# Altium integrated library Micron Memory Parallel NOR Flash.IntLib: 720 symbols (part 170 of 216)
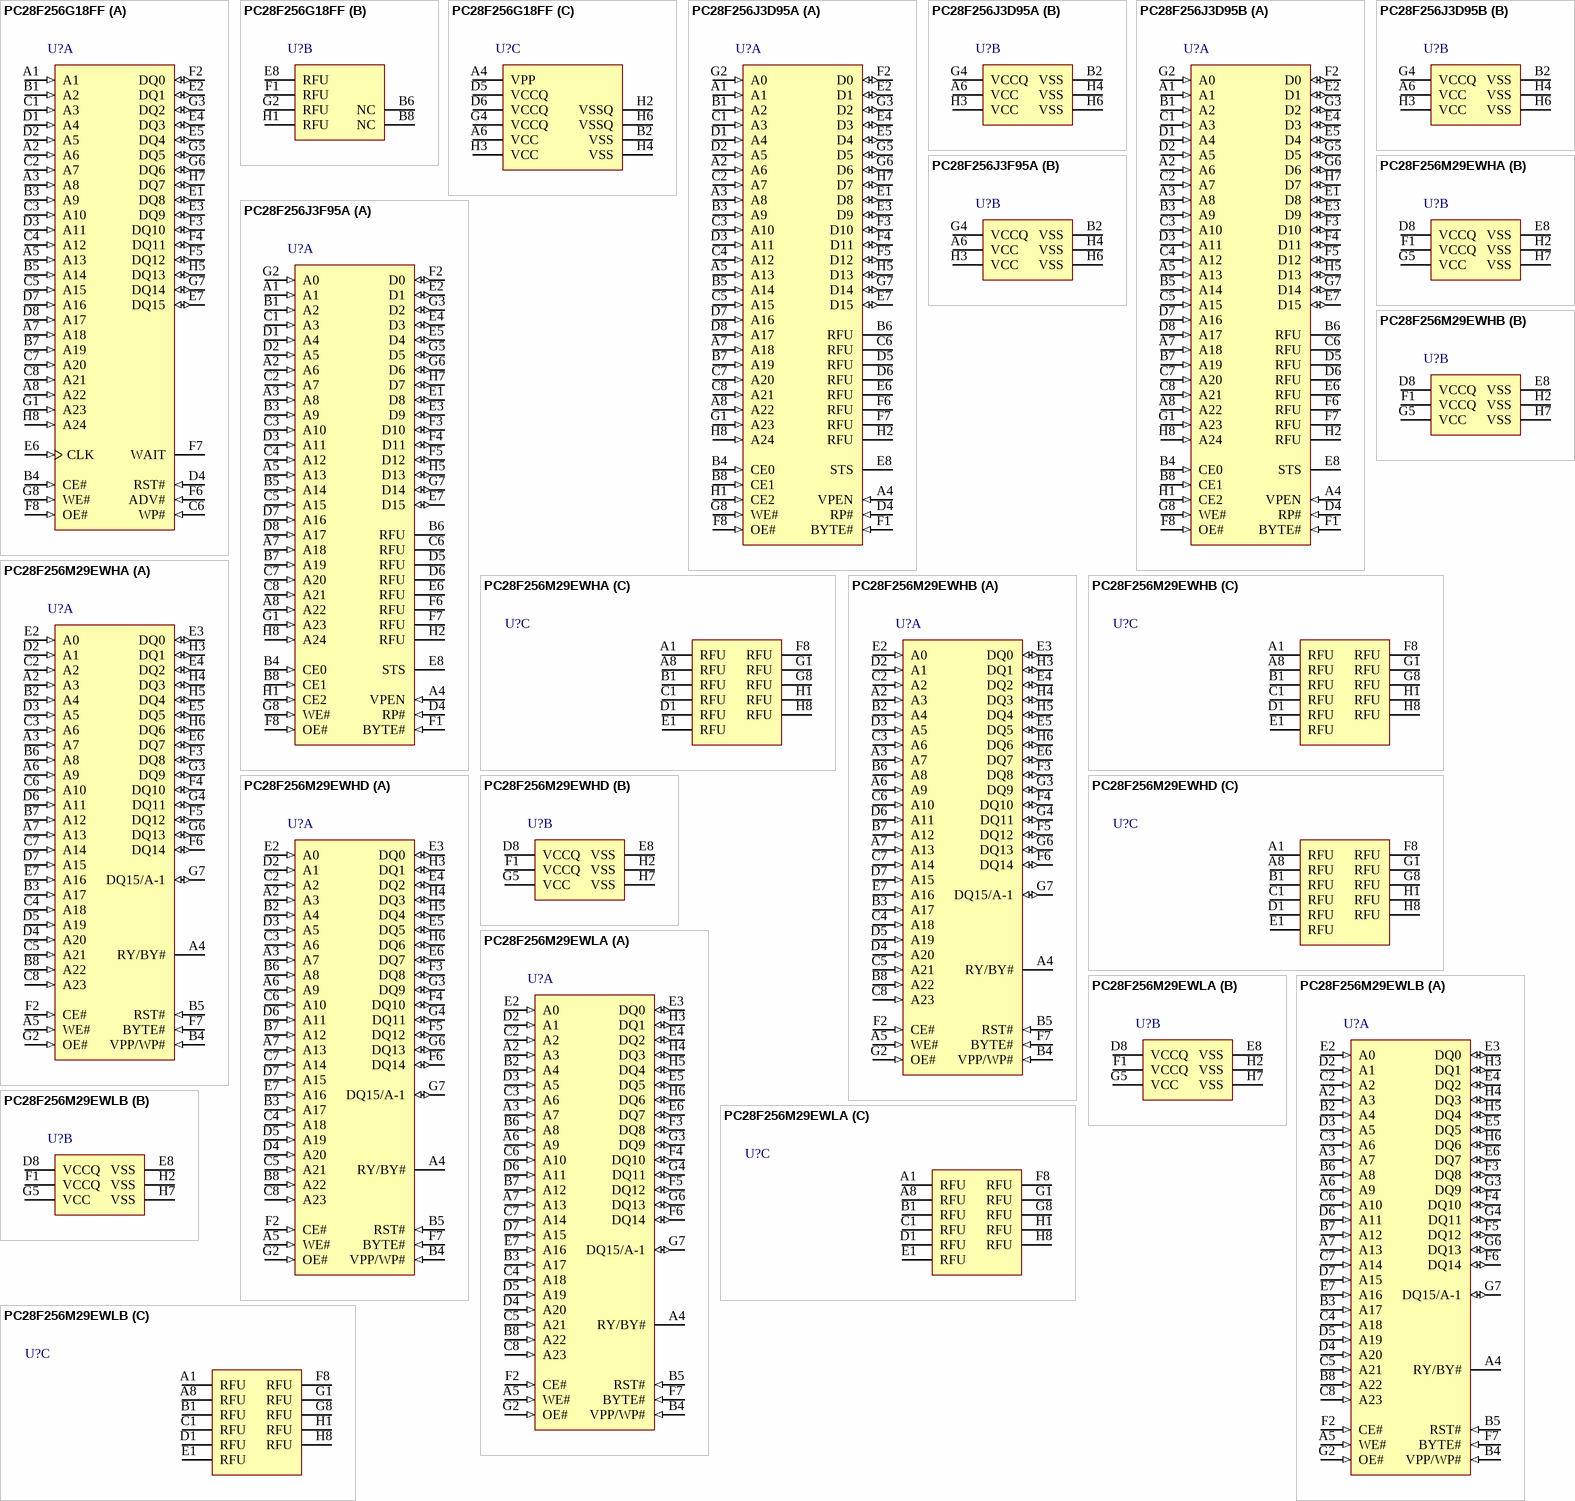
[diagram p203: symbols PC28F256G18FF to PC28F256M29EWLB]

## PC28F256J3F95A
designator U?
256 Mb (x8/x16) Parallel NOR Flash Memory, 95 ns, 2.7 to 3.6 V, 64-ball Easy BGA (PC), Tray; Part Family: J3; Manufacturer: Micron; PartNumber: PC28F256J3F95A; Density: 256Mb; Op Temp: -40C to +85C; Speed: 95ns; Voltage: 2.7V-3.6V; DatasheetVersion: Rev.02; PackageVersion: Rev. 10; PackageReference: MICT-PC-64-13000X10000X1200DEA; PackageDescription: 64-Ball BGA, 13 x 10 mm, Pitch 1 mm; RoHS: Yes; Width: x8/x16; Mounting Technology: Surface Mount; ComponentLink1Description: Manufacturer URL; ComponentLink1URL: http://www.micron.com/; ComponentLink2Description: Datasheet; ComponentLink2URL: http://www.micron.com/~/media/Documents/Products/Data%20Sheet/NOR%20Flash/Parallel/J3/319942_J3_65_256M_MLC_DS.pdf; ComponentLink3Description: Package Specification; ComponentLink3URL: http://www.micron.com/~/media/Documents/Products/Data%20Sheet/NOR%20Flash/Parallel/J3/316577_J3D_Monolithic_DS.pdf
footprint MICT-PC-64-13000X10000X1200DEA (BGA, 64-Balls, Body 13x10mm, Pitch 1mm)
part A pins: A1 (in) "Address Input: Input for addresses during read and program operations.", A2 A6 (in) "ADDRESS INPUT: Inputs for addresses during read and program operations.", A3 A8 (in) "ADDRESS INPUT: Inputs for addresses during read and program operations.", A4 VPEN (in) "ERASE / PROGRAM / BLOCK LOCK ENABLE: For erasing array blocks, programming data, or configuring lock-bits. With VPEN =< VPENLK, memory contents cannot be altered.", A5 A13 (in) "ADDRESS INPUT: Inputs for addresses during read and program operations.", A7 A18 (in) "ADDRESS INPUT: Inputs for addresses during read and program operations.", A8 A22 (in) "ADDRESS INPUT: Inputs for addresses during read and program operations.", B1 A2 (in) "ADDRESS INPUT: Inputs for addresses during read and program operations.", B3 A9 (in) "ADDRESS INPUT: Inputs for addresses during read and program operations.", B4 CE0 (in) "CHIP ENABLE: Activate the 32-, 64-, 128-, and 256-Mbit devices?control logic, input buffers, decoders, and sense amplifiers. When the device is de-selected (see Table 16, "Chip Enable Truth Table for 32-, 64-, 128- and (See Datasheet)", B5 A14 (in) "ADDRESS INPUT: Inputs for addresses during read and program operations.", B6 RFU "Reserved for Future Use: Balls designated as RFU are reserved by Numonyx for future device functionality and enhancement.", B7 A19 (in) "ADDRESS INPUT: Inputs for addresses during read and program operations.", B8 CE1 (in) "CHIP ENABLE: Activate the 32-, 64-, 128-, and 256-Mbit devices?control logic, input buffers, decoders, and sense amplifiers. When the device is de-selected (see Table 16, "Chip Enable Truth Table for 32-, 64-, 128- and (See Datasheet)", C1 A3 (in) "ADDRESS INPUT: Inputs for addresses during read and program operations.", C2 A7 (in) "ADDRESS INPUT: Inputs for addresses during read and program operations.", C3 A10 (in) "ADDRESS INPUT: Inputs for addresses during read and program operations.", C4 A12 (in) "ADDRESS INPUT: Inputs for addresses during read and program operations.", C5 A15 (in) "ADDRESS INPUT: Inputs for addresses during read and program operations.", C6 RFU "Reserved for Future Use: Balls designated as RFU are reserved by Numonyx for future device functionality and enhancement.", C7 A20 (in) "ADDRESS INPUT: Inputs for addresses during read and program operations.", C8 A21 (in) "ADDRESS INPUT: Inputs for addresses during read and program operations.", D1 A4 (in) "ADDRESS INPUT: Inputs for addresses during read and program operations.", D2 A5 (in) "ADDRESS INPUT: Inputs for addresses during read and program operations.", D3 A11 (in) "ADDRESS INPUT: Inputs for addresses during read and program operations.", D4 RP# (in) "RESET: RP#-low resets internal automation and puts the device in power-down mode. RP#-high enables normal operation. Exit from reset sets the device to read array mode. When driven low, RP# inhibits write operations which (See Datasheet)", D5 RFU "Reserved for Future Use: Balls designated as RFU are reserved by Numonyx for future device functionality and enhancement.", D6 RFU "Reserved for Future Use: Balls designated as RFU are reserved by Numonyx for future device functionality and enhancement.", D7 A16 (in) "ADDRESS INPUT: Inputs for addresses during read and program operations.", D8 A17 (in) "ADDRESS INPUT: Inputs for addresses during read and program operations.", E1 D8 (io) "HIGH-BYTE DATA BUS: Inputs data during x16 buffer writes and programming operations. Outputs array, CFI, or identifier data in the appropriate read mode; not used for Status Register reads. Data is internally latched during (See Datasheet)", E2 D1 (io) "LOW-BYTE DATA BUS: Inputs data during buffer writes and programming, and inputs commands during CUI writes. Outputs array, CFI, identifier, or status data in the appropriate read mode. Data is internally latched during write (See Datasheet)", E3 D9 (io) "HIGH-BYTE DATA BUS: Inputs data during x16 buffer writes and programming operations. Outputs array, CFI, or identifier data in the appropriate read mode; not used for Status Register reads. Data is internally latched during (See Datasheet)", E4 D3 (io) "LOW-BYTE DATA BUS: Inputs data during buffer writes and programming, and inputs commands during CUI writes. Outputs array, CFI, identifier, or status data in the appropriate read mode. Data is internally latched during write (See Datasheet)", E5 D4 (io) "LOW-BYTE DATA BUS: Inputs data during buffer writes and programming, and inputs commands during CUI writes. Outputs array, CFI, identifier, or status data in the appropriate read mode. Data is internally latched during write (See Datasheet)", E6 RFU "Reserved for Future Use: Balls designated as RFU are reserved by Numonyx for future device functionality and enhancement.", E7 D15 (io) "HIGH-BYTE DATA BUS: Inputs data during x16 buffer writes and programming operations. Outputs array, CFI, or identifier data in the appropriate read mode; not used for Status Register reads. Data is internally latched during (See Datasheet)", E8 STS (hiz) "STATUS: Indicates the status of the internal state machine. When configured in level mode (default), it acts as a RY/BY# signal. When configured in one of its pulse modes, it can pulse to indicate program and/or erase (See Datasheet)", F1 BYTE# (in) "BYTE ENABLE: BYTE#-low places the device in x8 mode; data is input or output on D[7:0], while D[15:8] is placed in High-Z. Address A0 selects between the high and low byte. BYTE#-high places the device in x16 mode, and turns (See Datasheet)", F2 D0 (io) "LOW-BYTE DATA BUS: Inputs data during buffer writes and programming, and Inputs commands during CUI writes. Outputs array, CFI, identifier, or status data in the appropriate read mode. Data is internally latched during write (See Datasheet)", F3 D10 (io) "HIGH-BYTE DATA BUS: Inputs data during x16 buffer writes and programming operations. Outputs array, CFI, or identifier data in the appropriate read mode; not used for Status Register reads. Data is internally latched during (See Datasheet)", F4 D11 (io) "HIGH-BYTE DATA BUS: Inputs data during x16 buffer writes and programming operations. Outputs array, CFI, or identifier data in the appropriate read mode; not used for Status Register reads. Data is internally latched during (See Datasheet)", F5 D12 (io) "HIGH-BYTE DATA BUS: Inputs data during x16 buffer writes and programming operations. Outputs array, CFI, or identifier data in the appropriate read mode; not used for Status Register reads. Data is internally latched during (See Datasheet)", F6 RFU "Reserved for Future Use: Balls designated as RFU are reserved by Numonyx for future device functionality and enhancement.", F7 RFU "Reserved for Future Use: Balls designated as RFU are reserved by Numonyx for future device functionality and enhancement.", F8 OE# (in) "OUTPUT ENABLE: Activates the device's outputs through the data buffers during a read cycle. OE# is active low.", G1 A23 (in) "ADDRESS INPUT: Inputs for addresses during read and program operations.", G2 A0 (in) "BYTE-SELECT ADDRESS: Selects between high and low byte when the device is in x8 mode. This address is latched during a x8 program cycle. Not used in x16 mode (i.e., the A0 input buffer is turned off when BYTE# is high).", G3 D2 (io) "LOW-BYTE DATA BUS: Inputs data during buffer writes and programming, and inputs commands during CUI writes. Outputs array, CFI, identifier, or status data in the appropriate read mode. Data is internally latched during write (See Datasheet)", G5 D5 (io) "LOW-BYTE DATA BUS: Inputs data during buffer writes and programming, and inputs commands during CUI writes. Outputs array, CFI, identifier, or status data in the appropriate read mode. Data is internally latched during write (See Datasheet)", G6 D6 (io) "LOW-BYTE DATA BUS: Inputs data during buffer writes and programming, and inputs commands during CUI writes. Outputs array, CFI, identifier, or status data in the appropriate read mode. Data is internally latched during write (See Datasheet)", G7 D14 (io) "HIGH-BYTE DATA BUS: Inputs data during x16 buffer writes and programming operations. Outputs array, CFI, or identifier data in the appropriate read mode; not used for Status Register reads. Data is internally latched during (See Datasheet)", G8 WE# (in) "WRITE ENABLE: Controls writes to the CUI, the Write Buffer, and array blocks. WE# is active low. Addresses and data are latched on the rising edge of WE#.", H1 CE2 (in) "CHIP ENABLE: Activate the 32-, 64-, 128-, and 256-Mbit devices?control logic, input buffers, decoders, and sense amplifiers. When the device is de-selected (see Table 16, "Chip Enable Truth Table for 32-, 64-, 128- and (See Datasheet)", H2 RFU "Reserved for Future Use: Balls designated as RFU are reserved by Numonyx for future device functionality and enhancement.", H5 D13 (io) "HIGH-BYTE DATA BUS: Inputs data during x16 buffer writes and programming operations. Outputs array, CFI, or identifier data in the appropriate read mode; not used for Status Register reads. Data is internally latched during (See Datasheet)", H7 D7 (io) "LOW-BYTE DATA BUS: Inputs data during buffer writes and programming, and inputs commands during CUI writes. Outputs array, CFI, identifier, or status data in the appropriate read mode. Data is internally latched during write (See Datasheet)", H8 A24 (in) "ADDRESS INPUT: Inputs for addresses during read and program operations."
part B pins: A6 VCC (power) "CORE Power Supply: Core (logic) source voltage. Writes to the flash array are inhibited when VCC =< Vlko. Caution: Device operation at invalid Vcc voltages should not be attempted.", B2 VSS (power) "GROUND: Ground reference for device logic voltages. Connect to system ground.", G4 VCCQ (power) "I/O Power Supply: Power supply for Input/Output buffers.This ball can be tied directly to VCC.", H3 VCC (power) "CORE Power Supply: Core (logic) source voltage. Writes to the flash array are inhibited when VCC =< Vlko. Caution: Device operation at invalid Vcc voltages should not be attempted.", H4 VSS (power) "GROUND: Ground reference for device logic voltages. Connect to system ground.", H6 VSS (power) "GROUND: Ground reference for device logic voltages. Connect to system ground."

## PC28F256M29EWHA
designator U?
256 Mb (x8/x16) Parallel NOR Flash Memory, 100 ns, 2.7 to 3.6 V, 64-ball FBGA (PC), Tray; Part Family: M29EW; Manufacturer: Micron; PartNumber: PC28F256M29EWHA; Density: 256Mb; Op Temp: -40C to +85C; Speed: 100ns; Voltage: 2.7V-3.6V; DatasheetVersion: Rev. B; PackageVersion: Rev. B; PackageReference: MICT-PC-64-13000X11000X1400DEA; PackageDescription: 64-Ball BGA, 13 x 11 mm, Pitch 1 mm; RoHS: Yes; Width: x8/x16; Mounting Technology: Surface Mount; ComponentLink1Description: Manufacturer URL; ComponentLink1URL: http://www.micron.com/; ComponentLink2Description: Datasheet; ComponentLink2URL: http://www.micron.com/~/media/Documents/Products/Data%20Sheet/NOR%20Flash/Parallel/M29EW/m29ew_256mb_2gb.pdf; ComponentLink3Description: Package Specification; ComponentLink3URL: http://www.micron.com/~/media/Documents/Products/Data%20Sheet/NOR%20Flash/Parallel/M29EW/m29ew_256mb_2gb.pdf
footprint MICT-PC-64-13000X11000X1400DEA (BGA, 64-Balls, Body 13x11mm, Pitch 1mm)
part A pins: A2 A3 (in) "Address: Selects the cells in the array to access during READ operations. During WRITE operations, they control the commands sent to the command interface of the program/erase controller.", A3 A7 (in) "Address: Selects the cells in the array to access during READ operations. During WRITE operations, they control the commands sent to the command interface of the program/erase controller.", A4 RY/BY# (hiz) "Ready busy: Open-drain output that can be used to identify when the device is performing a PROGRAM or ERASE operation. During PROGRAM or ERASE operations, RY/BY# is LOW, and is High-Z during read mode, auto select mode, and (See Datasheet)", A5 WE# (in) "Write enable: Controls the bus WRITE operation of the command interface.", A6 A9 (in) "Address: Selects the cells in the array to access during READ operations. During WRITE operations, they control the commands sent to the command interface of the program/erase controller.", A7 A13 (in) "Address: Selects the cells in the array to access during READ operations. During WRITE operations, they control the commands sent to the command interface of the program/erase controller.", B2 A4 (in) "Address: Selects the cells in the array to access during READ operations. During WRITE operations, they control the commands sent to the command interface of the program/erase controller.", B3 A17 (in) "Address: Selects the cells in the array to access during READ operations. During WRITE operations, they control the commands sent to the command interface of the program/erase controller.", B4 VPP/WP# (in) "VPP/Write Protect: Provides WRITE PROTECT function and VPPH function. These functions protect the lowest or highest block and enable the device to enter unlock bypass mode, respectively. (Refer to Hardware Protection and (See Datasheet)", B5 RST# (in) "Reset: Applies a hardware reset to the device, which is achieved by holding RST# LOW for at least tPLPX. After RST# goes HIGH, the device is ready for READ and WRITE operations (after tPHEL or tRHEL, whichever occurs last). (See Datasheet)", B6 A8 (in) "Address: Selects the cells in the array to access during READ operations. During WRITE operations, they control the commands sent to the command interface of the program/erase controller.", B7 A12 (in) "Address: Selects the cells in the array to access during READ operations. During WRITE operations, they control the commands sent to the command interface of the program/erase controller.", B8 A22 (in) "Address: Selects the cells in the array to access during READ operations. During WRITE operations, they control the commands sent to the command interface of the program/erase controller.", C2 A2 (in) "Address: Selects the cells in the array to access during READ operations. During WRITE operations, they control the commands sent to the command interface of the program/erase controller.", C3 A6 (in) "Address: Selects the cells in the array to access during READ operations. During WRITE operations, they control the commands sent to the command interface of the program/erase controller.", C4 A18 (in) "Address: Selects the cells in the array to access during READ operations. During WRITE operations, they control the commands sent to the command interface of the program/erase controller.", C5 A21 (in) "Address: Selects the cells in the array to access during READ operations. During WRITE operations, they control the commands sent to the command interface of the program/erase controller.", C6 A10 (in) "Address: Selects the cells in the array to access during READ operations. During WRITE operations, they control the commands sent to the command interface of the program/erase controller.", C7 A14 (in) "Address: Selects the cells in the array to access during READ operations. During WRITE operations, they control the commands sent to the command interface of the program/erase controller.", C8 A23 (in) "Address: Selects the cells in the array to access during READ operations. During WRITE operations, they control the commands sent to the command interface of the program/erase controller.", D2 A1 (in) "Address: Selects the cells in the array to access during READ operations. During WRITE operations, they control the commands sent to the command interface of the program/erase controller.", D3 A5 (in) "Address: Selects the cells in the array to access during READ operations. During WRITE operations, they control the commands sent to the command interface of the program/erase controller.", D4 A20 (in) "Address: Selects the cells in the array to access during READ operations. During WRITE operations, they control the commands sent to the command interface of the program/erase controller.", D5 A19 (in) "Address: Selects the cells in the array to access during READ operations. During WRITE operations, they control the commands sent to the command interface of the program/erase controller.", D6 A11 (in) "Address: Selects the cells in the array to access during READ operations. During WRITE operations, they control the commands sent to the command interface of the program/erase controller.", D7 A15 (in) "Address: Selects the cells in the array to access during READ operations. During WRITE operations, they control the commands sent to the command interface of the program/erase controller.", E2 A0 (in) "Address: Selects the cells in the array to access during READ operations. During WRITE operations, they control the commands sent to the command interface of the program/erase controller.", E3 DQ0 (io) "Data I/O: Output the data stored at the selected address during a READ operation. During WRITE operations, they represent the commands sent to the command interface of the internal state machine.", E4 DQ2 (io) "Data I/O: Output the data stored at the selected address during a READ operation. During WRITE operations, they represent the commands sent to the command interface of the internal state machine.", E5 DQ5 (io) "Data I/O: Output the data stored at the selected address during a READ operation. During WRITE operations, they represent the commands sent to the command interface of the internal state machine.", E6 DQ7 (io) "Data I/O: Output the data stored at the selected address during a READ operation. During WRITE operations, they represent the commands sent to the command interface of the internal state machine.", E7 A16 (in) "Address: Selects the cells in the array to access during READ operations. During WRITE operations, they control the commands sent to the command interface of the program/erase controller.", F2 CE# (in) "Chip enable: Activates the device, enabling READ and WRITE operations to be performed. When CE# is HIGH, the device goes to standby and data outputs are at HIGH-Z.", F3 DQ8 (io) "Data I/O: Output the data stored at the selected address during a READ operation when BYTE# is HIGH. When BYTE# is LOW, these pins are not used and are High-Z. During WRITE operations, these bits are not used. When reading (See Datasheet)", F4 DQ10 (io) "Data I/O: Output the data stored at the selected address during a READ operation when BYTE# is HIGH. When BYTE# is LOW, these pins are not used and are High-Z. During WRITE operations, these bits are not used. When reading (See Datasheet)", F5 DQ12 (io) "Data I/O: Output the data stored at the selected address during a READ operation when BYTE# is HIGH. When BYTE# is LOW, these pins are not used and are High-Z. During WRITE operations, these bits are not used. When reading (See Datasheet)", F6 DQ14 (io) "Data I/O: Output the data stored at the selected address during a READ operation when BYTE# is HIGH. When BYTE# is LOW, these pins are not used and are High-Z. During WRITE operations, these bits are not used. When reading (See Datasheet)", F7 BYTE# (in) "Byte/word organization select: Switches between x8 and x16 bus modes. When BYTE# is LOW, the device is in x8 mode; when HIGH, the device is in x16 mode.", G2 OE# (in) "Output enable: Controls the bus READ operation.", G3 DQ9 (io) "Data I/O: Output the data stored at the selected address during a READ operation when BYTE# is HIGH. When BYTE# is LOW, these pins are not used and are High-Z. During WRITE operations, these bits are not used. When reading (See Datasheet)", G4 DQ11 (io) "Data I/O: Output the data stored at the selected address during a READ operation when BYTE# is HIGH. When BYTE# is LOW, these pins are not used and are High-Z. During WRITE operations, these bits are not used. When reading (See Datasheet)", G6 DQ13 (io) "Data I/O: Output the data stored at the selected address during a READ operation when BYTE# is HIGH. When BYTE# is LOW, these pins are not used and are High-Z. During WRITE operations, these bits are not used. When reading (See Datasheet)", G7 DQ15/A-1 (io) "Data I/O or address input: When the device operates in x16 bus mode, this pin behaves as data I/O, together with DQ[14:8]. When the device operates in x8 bus mode, this pin behaves as the least significant bit of the address.(See Datasheet)", H3 DQ1 (io) "Data I/O: Output the data stored at the selected address during a READ operation. During WRITE operations, they represent the commands sent to the command interface of the internal state machine.", H4 DQ3 (io) "Data I/O: Output the data stored at the selected address during a READ operation. During WRITE operations, they represent the commands sent to the command interface of the internal state machine.", H5 DQ4 (io) "Data I/O: Output the data stored at the selected address during a READ operation. During WRITE operations, they represent the commands sent to the command interface of the internal state machine.", H6 DQ6 (io) "Data I/O: Output the data stored at the selected address during a READ operation. During WRITE operations, they represent the commands sent to the command interface of the internal state machine."
part B pins: D8 VCCQ (power) "I/O supply voltage: Provides the power supply to the I/O pins and enables all outputs to be powered independently from VCC.", E8 VSS (power) "Ground: All VSS pins must be connected to the system ground.", F1 VCCQ (power) "I/O supply voltage: Provides the power supply to the I/O pins and enables all outputs to be powered independently from VCC.", G5 VCC (power) "Supply voltage: Provides the power supply for READ, PROGRAM, and ERASE operations. The command interface is disabled when VCC <= VLKO. This prevents WRITE operations from accidentally damaging the data during power-up, (See Datasheet)", H2 VSS (power) "Ground: All VSS pins must be connected to the system ground.", H7 VSS (power) "Ground: All VSS pins must be connected to the system ground."
part C pins: A1 RFU "Reserved for future use: RFUs should be not connected.", A8 RFU "Reserved for future use: RFUs should be not connected.", B1 RFU "Reserved for future use: RFUs should be not connected.", C1 RFU "Reserved for future use: RFUs should be not connected.", D1 RFU "Reserved for future use: RFUs should be not connected.", E1 RFU "Reserved for future use: RFUs should be not connected.", F8 RFU "Reserved for future use: RFUs should be not connected.", G1 RFU "Reserved for future use: RFUs should be not connected.", G8 RFU "Reserved for future use: RFUs should be not connected.", H1 RFU "Reserved for future use: RFUs should be not connected.", H8 RFU "Reserved for future use: RFUs should be not connected."

## PC28F256M29EWHB
designator U?
256 Mb (x8/x16) Parallel NOR Flash Memory, 100 ns, 2.7 to 3.6 V, 64-ball FBGA (PC), Tape & Reel; Part Family: M29EW; Manufacturer: Micron; PartNumber: PC28F256M29EWHB; Density: 256MB; Op Temp: -40C to +85C; Speed: 100ns; Voltage: 2.7V-3.6V; DatasheetVersion: Rev. B; PackageVersion: Rev. B; PackageReference: MICT-PC-64-13000X11000X1400DEA; PackageDescription: 64-Ball BGA, 13 x 11 mm, Pitch 1 mm; RoHS: Yes; Width: x8/x16; Mounting Technology: Surface Mount; ComponentLink1Description: Manufacturer URL; ComponentLink1URL: http://www.micron.com/; ComponentLink2Description: Datasheet; ComponentLink2URL: http://www.micron.com/~/media/Documents/Products/Data%20Sheet/NOR%20Flash/Parallel/M29EW/m29ew_256mb_2gb.pdf; ComponentLink3Description: Package Specification; ComponentLink3URL: http://www.micron.com/~/media/Documents/Products/Data%20Sheet/NOR%20Flash/Parallel/M29EW/m29ew_256mb_2gb.pdf
footprint MICT-PC-64-13000X11000X1400DEA (BGA, 64-Balls, Body 13x11mm, Pitch 1mm)
part A pins: A2 A3 (in) "Address: Selects the cells in the array to access during READ operations. During WRITE operations, they control the commands sent to the command interface of the program/erase controller.", A3 A7 (in) "Address: Selects the cells in the array to access during READ operations. During WRITE operations, they control the commands sent to the command interface of the program/erase controller.", A4 RY/BY# (hiz) "Ready busy: Open-drain output that can be used to identify when the device is performing a PROGRAM or ERASE operation. During PROGRAM or ERASE operations, RY/BY# is LOW, and is High-Z during read mode, auto select mode, and (See Datasheet)", A5 WE# (in) "Write enable: Controls the bus WRITE operation of the command interface.", A6 A9 (in) "Address: Selects the cells in the array to access during READ operations. During WRITE operations, they control the commands sent to the command interface of the program/erase controller.", A7 A13 (in) "Address: Selects the cells in the array to access during READ operations. During WRITE operations, they control the commands sent to the command interface of the program/erase controller.", B2 A4 (in) "Address: Selects the cells in the array to access during READ operations. During WRITE operations, they control the commands sent to the command interface of the program/erase controller.", B3 A17 (in) "Address: Selects the cells in the array to access during READ operations. During WRITE operations, they control the commands sent to the command interface of the program/erase controller.", B4 VPP/WP# (in) "VPP/Write Protect: Provides WRITE PROTECT function and VPPH function. These functions protect the lowest or highest block and enable the device to enter unlock bypass mode, respectively. (Refer to Hardware Protection and (See Datasheet)", B5 RST# (in) "Reset: Applies a hardware reset to the device, which is achieved by holding RST# LOW for at least tPLPX. After RST# goes HIGH, the device is ready for READ and WRITE operations (after tPHEL or tRHEL, whichever occurs last). (See Datasheet)", B6 A8 (in) "Address: Selects the cells in the array to access during READ operations. During WRITE operations, they control the commands sent to the command interface of the program/erase controller.", B7 A12 (in) "Address: Selects the cells in the array to access during READ operations. During WRITE operations, they control the commands sent to the command interface of the program/erase controller.", B8 A22 (in) "Address: Selects the cells in the array to access during READ operations. During WRITE operations, they control the commands sent to the command interface of the program/erase controller.", C2 A2 (in) "Address: Selects the cells in the array to access during READ operations. During WRITE operations, they control the commands sent to the command interface of the program/erase controller.", C3 A6 (in) "Address: Selects the cells in the array to access during READ operations. During WRITE operations, they control the commands sent to the command interface of the program/erase controller.", C4 A18 (in) "Address: Selects the cells in the array to access during READ operations. During WRITE operations, they control the commands sent to the command interface of the program/erase controller.", C5 A21 (in) "Address: Selects the cells in the array to access during READ operations. During WRITE operations, they control the commands sent to the command interface of the program/erase controller.", C6 A10 (in) "Address: Selects the cells in the array to access during READ operations. During WRITE operations, they control the commands sent to the command interface of the program/erase controller.", C7 A14 (in) "Address: Selects the cells in the array to access during READ operations. During WRITE operations, they control the commands sent to the command interface of the program/erase controller.", C8 A23 (in) "Address: Selects the cells in the array to access during READ operations. During WRITE operations, they control the commands sent to the command interface of the program/erase controller.", D2 A1 (in) "Address: Selects the cells in the array to access during READ operations. During WRITE operations, they control the commands sent to the command interface of the program/erase controller.", D3 A5 (in) "Address: Selects the cells in the array to access during READ operations. During WRITE operations, they control the commands sent to the command interface of the program/erase controller.", D4 A20 (in) "Address: Selects the cells in the array to access during READ operations. During WRITE operations, they control the commands sent to the command interface of the program/erase controller.", D5 A19 (in) "Address: Selects the cells in the array to access during READ operations. During WRITE operations, they control the commands sent to the command interface of the program/erase controller.", D6 A11 (in) "Address: Selects the cells in the array to access during READ operations. During WRITE operations, they control the commands sent to the command interface of the program/erase controller.", D7 A15 (in) "Address: Selects the cells in the array to access during READ operations. During WRITE operations, they control the commands sent to the command interface of the program/erase controller.", E2 A0 (in) "Address: Selects the cells in the array to access during READ operations. During WRITE operations, they control the commands sent to the command interface of the program/erase controller.", E3 DQ0 (io) "Data I/O: Output the data stored at the selected address during a READ operation. During WRITE operations, they represent the commands sent to the command interface of the internal state machine.", E4 DQ2 (io) "Data I/O: Output the data stored at the selected address during a READ operation. During WRITE operations, they represent the commands sent to the command interface of the internal state machine.", E5 DQ5 (io) "Data I/O: Output the data stored at the selected address during a READ operation. During WRITE operations, they represent the commands sent to the command interface of the internal state machine.", E6 DQ7 (io) "Data I/O: Output the data stored at the selected address during a READ operation. During WRITE operations, they represent the commands sent to the command interface of the internal state machine.", E7 A16 (in) "Address: Selects the cells in the array to access during READ operations. During WRITE operations, they control the commands sent to the command interface of the program/erase controller.", F2 CE# (in) "Chip enable: Activates the device, enabling READ and WRITE operations to be performed. When CE# is HIGH, the device goes to standby and data outputs are at HIGH-Z.", F3 DQ8 (io) "Data I/O: Output the data stored at the selected address during a READ operation when BYTE# is HIGH. When BYTE# is LOW, these pins are not used and are High-Z. During WRITE operations, these bits are not used. When reading (See Datasheet)", F4 DQ10 (io) "Data I/O: Output the data stored at the selected address during a READ operation when BYTE# is HIGH. When BYTE# is LOW, these pins are not used and are High-Z. During WRITE operations, these bits are not used. When reading (See Datasheet)", F5 DQ12 (io) "Data I/O: Output the data stored at the selected address during a READ operation when BYTE# is HIGH. When BYTE# is LOW, these pins are not used and are High-Z. During WRITE operations, these bits are not used. When reading (See Datasheet)", F6 DQ14 (io) "Data I/O: Output the data stored at the selected address during a READ operation when BYTE# is HIGH. When BYTE# is LOW, these pins are not used and are High-Z. During WRITE operations, these bits are not used. When reading (See Datasheet)", F7 BYTE# (in) "Byte/word organization select: Switches between x8 and x16 bus modes. When BYTE# is LOW, the device is in x8 mode; when HIGH, the device is in x16 mode.", G2 OE# (in) "Output enable: Controls the bus READ operation.", G3 DQ9 (io) "Data I/O: Output the data stored at the selected address during a READ operation when BYTE# is HIGH. When BYTE# is LOW, these pins are not used and are High-Z. During WRITE operations, these bits are not used. When reading (See Datasheet)", G4 DQ11 (io) "Data I/O: Output the data stored at the selected address during a READ operation when BYTE# is HIGH. When BYTE# is LOW, these pins are not used and are High-Z. During WRITE operations, these bits are not used. When reading (See Datasheet)", G6 DQ13 (io) "Data I/O: Output the data stored at the selected address during a READ operation when BYTE# is HIGH. When BYTE# is LOW, these pins are not used and are High-Z. During WRITE operations, these bits are not used. When reading (See Datasheet)", G7 DQ15/A-1 (io) "Data I/O or address input: When the device operates in x16 bus mode, this pin behaves as data I/O, together with DQ[14:8]. When the device operates in x8 bus mode, this pin behaves as the least significant bit of the address.(See Datasheet)", H3 DQ1 (io) "Data I/O: Output the data stored at the selected address during a READ operation. During WRITE operations, they represent the commands sent to the command interface of the internal state machine.", H4 DQ3 (io) "Data I/O: Output the data stored at the selected address during a READ operation. During WRITE operations, they represent the commands sent to the command interface of the internal state machine.", H5 DQ4 (io) "Data I/O: Output the data stored at the selected address during a READ operation. During WRITE operations, they represent the commands sent to the command interface of the internal state machine.", H6 DQ6 (io) "Data I/O: Output the data stored at the selected address during a READ operation. During WRITE operations, they represent the commands sent to the command interface of the internal state machine."
part B pins: D8 VCCQ (power) "I/O supply voltage: Provides the power supply to the I/O pins and enables all outputs to be powered independently from VCC.", E8 VSS (power) "Ground: All VSS pins must be connected to the system ground.", F1 VCCQ (power) "I/O supply voltage: Provides the power supply to the I/O pins and enables all outputs to be powered independently from VCC.", G5 VCC (power) "Supply voltage: Provides the power supply for READ, PROGRAM, and ERASE operations. The command interface is disabled when VCC <= VLKO. This prevents WRITE operations from accidentally damaging the data during power-up, (See Datasheet)", H2 VSS (power) "Ground: All VSS pins must be connected to the system ground.", H7 VSS (power) "Ground: All VSS pins must be connected to the system ground."
part C pins: A1 RFU "Reserved for future use: RFUs should be not connected.", A8 RFU "Reserved for future use: RFUs should be not connected.", B1 RFU "Reserved for future use: RFUs should be not connected.", C1 RFU "Reserved for future use: RFUs should be not connected.", D1 RFU "Reserved for future use: RFUs should be not connected.", E1 RFU "Reserved for future use: RFUs should be not connected.", F8 RFU "Reserved for future use: RFUs should be not connected.", G1 RFU "Reserved for future use: RFUs should be not connected.", G8 RFU "Reserved for future use: RFUs should be not connected.", H1 RFU "Reserved for future use: RFUs should be not connected.", H8 RFU "Reserved for future use: RFUs should be not connected."

## PC28F256M29EWHD
designator U?
256 Mb (x8/x16) Parallel NOR Flash Memory, 100 ns, 2.7 to 3.6 V, 64-ball FBGA (PC), Tray; Part Family: M29EW; Manufacturer: Micron; PartNumber: PC28F256M29EWHD; Density: 256Mb; Op Temp: -40C to +85C; Speed: 100ns; Voltage: 2.7V-3.6V; DatasheetVersion: Rev. B; PackageVersion: Rev. B; PackageReference: MICT-PC-64-13000X11000X1400DEA; PackageDescription: 64-Ball BGA, 13 x 11 mm, Pitch 1 mm; RoHS: Yes; Width: x8/x16; Mounting Technology: Surface Mount; ComponentLink1Description: Manufacturer URL; ComponentLink1URL: http://www.micron.com/; ComponentLink2Description: Datasheet; ComponentLink2URL: http://www.micron.com/~/media/Documents/Products/Data%20Sheet/NOR%20Flash/Parallel/M29EW/m29ew_256mb_2gb.pdf; ComponentLink3Description: Package Specification; ComponentLink3URL: http://www.micron.com/~/media/Documents/Products/Data%20Sheet/NOR%20Flash/Parallel/M29EW/m29ew_256mb_2gb.pdf
footprint MICT-PC-64-13000X11000X1400DEA (BGA, 64-Balls, Body 13x11mm, Pitch 1mm)
part A pins: A2 A3 (in) "Address: Selects the cells in the array to access during READ operations. During WRITE operations, they control the commands sent to the command interface of the program/erase controller.", A3 A7 (in) "Address: Selects the cells in the array to access during READ operations. During WRITE operations, they control the commands sent to the command interface of the program/erase controller.", A4 RY/BY# (hiz) "Ready busy: Open-drain output that can be used to identify when the device is performing a PROGRAM or ERASE operation. During PROGRAM or ERASE operations, RY/BY# is LOW, and is High-Z during read mode, auto select mode, and (See Datasheet)", A5 WE# (in) "Write enable: Controls the bus WRITE operation of the command interface.", A6 A9 (in) "Address: Selects the cells in the array to access during READ operations. During WRITE operations, they control the commands sent to the command interface of the program/erase controller.", A7 A13 (in) "Address: Selects the cells in the array to access during READ operations. During WRITE operations, they control the commands sent to the command interface of the program/erase controller.", B2 A4 (in) "Address: Selects the cells in the array to access during READ operations. During WRITE operations, they control the commands sent to the command interface of the program/erase controller.", B3 A17 (in) "Address: Selects the cells in the array to access during READ operations. During WRITE operations, they control the commands sent to the command interface of the program/erase controller.", B4 VPP/WP# (in) "VPP/Write Protect: Provides WRITE PROTECT function and VPPH function. These functions protect the lowest or highest block and enable the device to enter unlock bypass mode, respectively. (Refer to Hardware Protection and (See Datasheet)", B5 RST# (in) "Reset: Applies a hardware reset to the device, which is achieved by holding RST# LOW for at least tPLPX. After RST# goes HIGH, the device is ready for READ and WRITE operations (after tPHEL or tRHEL, whichever occurs last). (See Datasheet)", B6 A8 (in) "Address: Selects the cells in the array to access during READ operations. During WRITE operations, they control the commands sent to the command interface of the program/erase controller.", B7 A12 (in) "Address: Selects the cells in the array to access during READ operations. During WRITE operations, they control the commands sent to the command interface of the program/erase controller.", B8 A22 (in) "Address: Selects the cells in the array to access during READ operations. During WRITE operations, they control the commands sent to the command interface of the program/erase controller.", C2 A2 (in) "Address: Selects the cells in the array to access during READ operations. During WRITE operations, they control the commands sent to the command interface of the program/erase controller.", C3 A6 (in) "Address: Selects the cells in the array to access during READ operations. During WRITE operations, they control the commands sent to the command interface of the program/erase controller.", C4 A18 (in) "Address: Selects the cells in the array to access during READ operations. During WRITE operations, they control the commands sent to the command interface of the program/erase controller.", C5 A21 (in) "Address: Selects the cells in the array to access during READ operations. During WRITE operations, they control the commands sent to the command interface of the program/erase controller.", C6 A10 (in) "Address: Selects the cells in the array to access during READ operations. During WRITE operations, they control the commands sent to the command interface of the program/erase controller.", C7 A14 (in) "Address: Selects the cells in the array to access during READ operations. During WRITE operations, they control the commands sent to the command interface of the program/erase controller.", C8 A23 (in) "Address: Selects the cells in the array to access during READ operations. During WRITE operations, they control the commands sent to the command interface of the program/erase controller.", D2 A1 (in) "Address: Selects the cells in the array to access during READ operations. During WRITE operations, they control the commands sent to the command interface of the program/erase controller.", D3 A5 (in) "Address: Selects the cells in the array to access during READ operations. During WRITE operations, they control the commands sent to the command interface of the program/erase controller.", D4 A20 (in) "Address: Selects the cells in the array to access during READ operations. During WRITE operations, they control the commands sent to the command interface of the program/erase controller.", D5 A19 (in) "Address: Selects the cells in the array to access during READ operations. During WRITE operations, they control the commands sent to the command interface of the program/erase controller.", D6 A11 (in) "Address: Selects the cells in the array to access during READ operations. During WRITE operations, they control the commands sent to the command interface of the program/erase controller.", D7 A15 (in) "Address: Selects the cells in the array to access during READ operations. During WRITE operations, they control the commands sent to the command interface of the program/erase controller.", E2 A0 (in) "Address: Selects the cells in the array to access during READ operations. During WRITE operations, they control the commands sent to the command interface of the program/erase controller.", E3 DQ0 (io) "Data I/O: Output the data stored at the selected address during a READ operation. During WRITE operations, they represent the commands sent to the command interface of the internal state machine.", E4 DQ2 (io) "Data I/O: Output the data stored at the selected address during a READ operation. During WRITE operations, they represent the commands sent to the command interface of the internal state machine.", E5 DQ5 (io) "Data I/O: Output the data stored at the selected address during a READ operation. During WRITE operations, they represent the commands sent to the command interface of the internal state machine.", E6 DQ7 (io) "Data I/O: Output the data stored at the selected address during a READ operation. During WRITE operations, they represent the commands sent to the command interface of the internal state machine.", E7 A16 (in) "Address: Selects the cells in the array to access during READ operations. During WRITE operations, they control the commands sent to the command interface of the program/erase controller.", F2 CE# (in) "Chip enable: Activates the device, enabling READ and WRITE operations to be performed. When CE# is HIGH, the device goes to standby and data outputs are at HIGH-Z.", F3 DQ8 (io) "Data I/O: Output the data stored at the selected address during a READ operation when BYTE# is HIGH. When BYTE# is LOW, these pins are not used and are High-Z. During WRITE operations, these bits are not used. When reading (See Datasheet)", F4 DQ10 (io) "Data I/O: Output the data stored at the selected address during a READ operation when BYTE# is HIGH. When BYTE# is LOW, these pins are not used and are High-Z. During WRITE operations, these bits are not used. When reading (See Datasheet)", F5 DQ12 (io) "Data I/O: Output the data stored at the selected address during a READ operation when BYTE# is HIGH. When BYTE# is LOW, these pins are not used and are High-Z. During WRITE operations, these bits are not used. When reading (See Datasheet)", F6 DQ14 (io) "Data I/O: Output the data stored at the selected address during a READ operation when BYTE# is HIGH. When BYTE# is LOW, these pins are not used and are High-Z. During WRITE operations, these bits are not used. When reading (See Datasheet)", F7 BYTE# (in) "Byte/word organization select: Switches between x8 and x16 bus modes. When BYTE# is LOW, the device is in x8 mode; when HIGH, the device is in x16 mode.", G2 OE# (in) "Output enable: Controls the bus READ operation.", G3 DQ9 (io) "Data I/O: Output the data stored at the selected address during a READ operation when BYTE# is HIGH. When BYTE# is LOW, these pins are not used and are High-Z. During WRITE operations, these bits are not used. When reading (See Datasheet)", G4 DQ11 (io) "Data I/O: Output the data stored at the selected address during a READ operation when BYTE# is HIGH. When BYTE# is LOW, these pins are not used and are High-Z. During WRITE operations, these bits are not used. When reading (See Datasheet)", G6 DQ13 (io) "Data I/O: Output the data stored at the selected address during a READ operation when BYTE# is HIGH. When BYTE# is LOW, these pins are not used and are High-Z. During WRITE operations, these bits are not used. When reading (See Datasheet)", G7 DQ15/A-1 (io) "Data I/O or address input: When the device operates in x16 bus mode, this pin behaves as data I/O, together with DQ[14:8]. When the device operates in x8 bus mode, this pin behaves as the least significant bit of the address.(See Datasheet)", H3 DQ1 (io) "Data I/O: Output the data stored at the selected address during a READ operation. During WRITE operations, they represent the commands sent to the command interface of the internal state machine.", H4 DQ3 (io) "Data I/O: Output the data stored at the selected address during a READ operation. During WRITE operations, they represent the commands sent to the command interface of the internal state machine.", H5 DQ4 (io) "Data I/O: Output the data stored at the selected address during a READ operation. During WRITE operations, they represent the commands sent to the command interface of the internal state machine.", H6 DQ6 (io) "Data I/O: Output the data stored at the selected address during a READ operation. During WRITE operations, they represent the commands sent to the command interface of the internal state machine."
part B pins: D8 VCCQ (power) "I/O supply voltage: Provides the power supply to the I/O pins and enables all outputs to be powered independently from VCC.", E8 VSS (power) "Ground: All VSS pins must be connected to the system ground.", F1 VCCQ (power) "I/O supply voltage: Provides the power supply to the I/O pins and enables all outputs to be powered independently from VCC.", G5 VCC (power) "Supply voltage: Provides the power supply for READ, PROGRAM, and ERASE operations. The command interface is disabled when VCC <= VLKO. This prevents WRITE operations from accidentally damaging the data during power-up, (See Datasheet)", H2 VSS (power) "Ground: All VSS pins must be connected to the system ground.", H7 VSS (power) "Ground: All VSS pins must be connected to the system ground."
part C pins: A1 RFU "Reserved for future use: RFUs should be not connected.", A8 RFU "Reserved for future use: RFUs should be not connected.", B1 RFU "Reserved for future use: RFUs should be not connected.", C1 RFU "Reserved for future use: RFUs should be not connected.", D1 RFU "Reserved for future use: RFUs should be not connected.", E1 RFU "Reserved for future use: RFUs should be not connected.", F8 RFU "Reserved for future use: RFUs should be not connected.", G1 RFU "Reserved for future use: RFUs should be not connected.", G8 RFU "Reserved for future use: RFUs should be not connected.", H1 RFU "Reserved for future use: RFUs should be not connected.", H8 RFU "Reserved for future use: RFUs should be not connected."